# EAGLE library part A3916GESTR-T (library A3916GESTR-T)
ALLEGRO MICROSYSTEMS - A3916GESTR-T - MOTOR DRIVER, STEPPER/DC, QFN-16 Source: Datasheet <https://eagle.componentsearchengine.com/Datasheets/2/A3916GESTR-T.pdf>
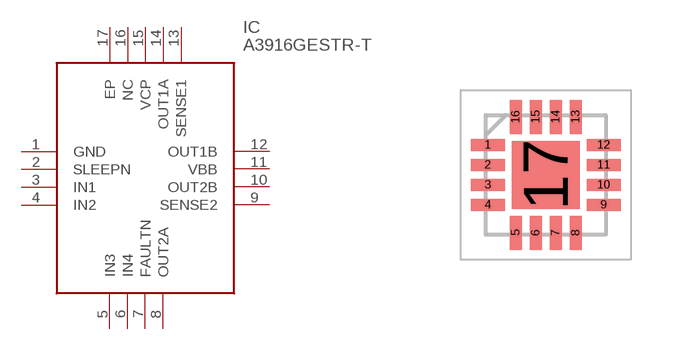
[diagram p0: symbol with the pads of QFN50P300X300X75-17N; footprint QFN50P300X300X75-17N]

Designator prefix IC

## A3916GESTR-T (Description: ALLEGRO MICROSYSTEMS - A3916GESTR-T - MOTOR DRIVER, STEPPER/DC, QFN-16; Height: 0.75mm; Manufacturer_Name: Allegro Microsystems; Manufacturer_Part_Number: A3916GESTR-T)  [QFN50P300X300X75-17N]
1  GND
2  SLEEPN
3  IN1
4  IN2
5  IN3
6  IN4
7  FAULTN
8  OUT2A
9  SENSE2
10  OUT2B
11  VBB
12  OUT1B
13  SENSE1
14  OUT1A
15  VCP
16  NC  nc
17  EP

## Footprint QFN50P300X300X75-17N (pad centres in mm)
16 PIN QFN
smd 0.85 x 0.3: 1 -1.45,0.75; 2 -1.45,0.25; 3 -1.45,-0.25; 4 -1.45,-0.75; 9 1.45,-0.75; 10 1.45,-0.25; 11 1.45,0.25; 12 1.45,0.75
smd 0.3 x 0.85: 5 -0.75,-1.45; 6 -0.25,-1.45; 7 0.25,-1.45; 8 0.75,-1.45; 13 0.75,1.45; 14 0.25,1.45; 15 -0.25,1.45; 16 -0.75,1.45
smd 1.7 x 1.7: 17 0,0